# EAGLE library part PROG-JIG-ZERO (library shrew-core)
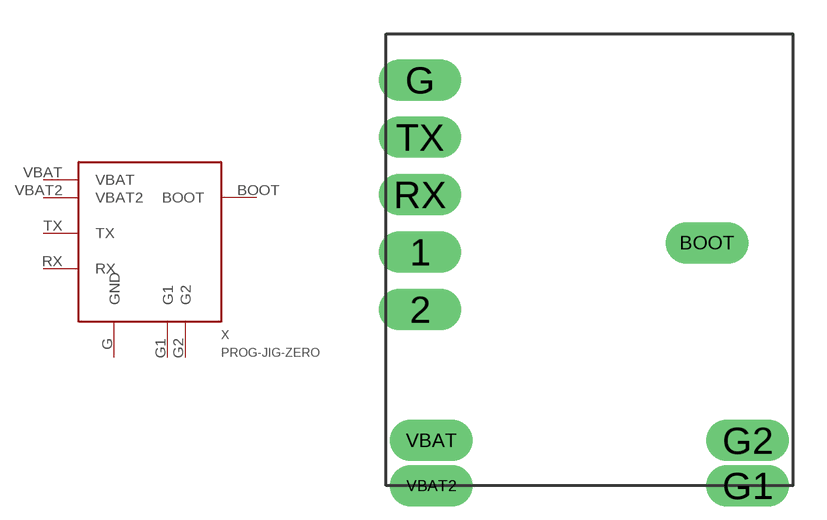
[diagram p7: symbol with the pads of PROG-JIG-ZERO; footprint PROG-JIG-ZERO]

Designator prefix X

## PROG-JIG-ZERO  [PROG-JIG-ZERO]
BOOT  BOOT
G  GND
G1  G1
G2  G2
RX  RX
TX  TX
VBAT  VBAT
VBAT2  VBAT2

## Footprint PROG-JIG-ZERO (pad centres in mm)
drill 0.6 pad 1.829 long: 1 1.5,10.34; 2 1.5,7.8; BOOT 14.2,10.75; G 1.5,17.96; G1 16,0; G2 16,2; RX 1.5,12.88; TX 1.5,15.42; VBAT 2,2; VBAT2 2,0